# EAGLE library part ADAR7251?* (library ADAR7251)
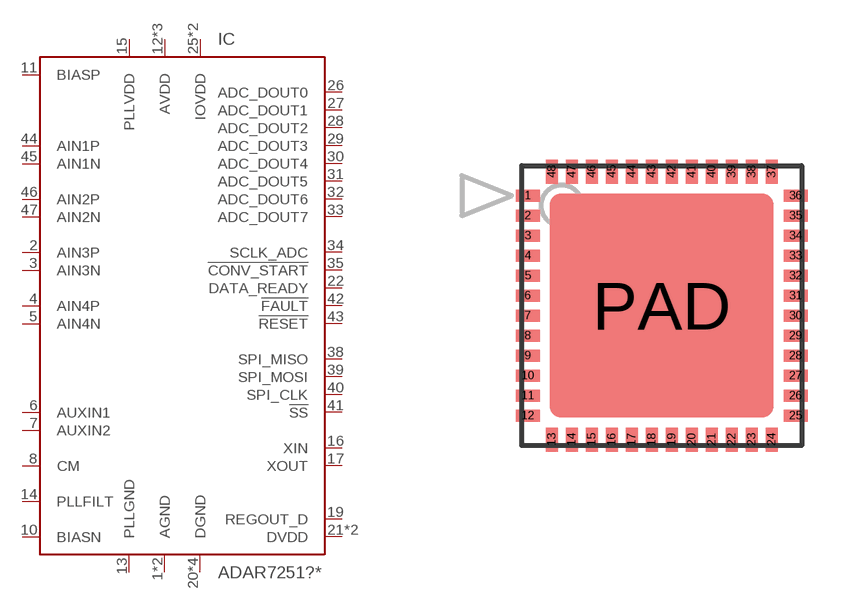
[diagram p0: symbol with the pads of LFCSP48-7X7-0.5; footprint LFCSP48-7X7-0.5]

Designator prefix IC

## ADAR7251WBCSZ (MARK: ADAR7251; MF: Analog Devices; MPN: ADAR7251WBCSZ), ADAR7251WBCSZ-RL (MARK: ADAR7251; MF: Analog Devices; MPN: ADAR7251WBCSZ-RL)  [LFCSP48-7X7-0.5]
1  AGND  pwr
2  AIN3P  in
3  AIN3N  in
4  AIN4P  in
5  AIN4N  in
6  AUXIN1  in
7  AUXIN2  in
8  CM
9  AGND  pwr
10  BIASN
11  BIASP
12  AVDD  pwr
13  PLLGND
14  PLLFILT
15  PLLVDD  in
16  XIN  in
17  XOUT  out
18  AVDD  pwr
19  REGOUT_D  out
20  DGND  pwr
21  DVDD  pwr
22  DATA_READY  out
23  DGND  pwr
24  DVDD  pwr
25  IOVDD  in
26  ADC_DOUT0  out
27  ADC_DOUT1  out
28  ADC_DOUT2
29  ADC_DOUT3
30  ADC_DOUT4  out
31  ADC_DOUT5  out
32  ADC_DOUT6  out
33  ADC_DOUT7
34  SCLK_ADC
35  !CONV_START  in
36  DGND  pwr
37  IOVDD  in
38  SPI_MISO  out
39  SPI_MOSI  in
40  SPI_CLK  in
41  !SS  in
42  !FAULT  oc
43  !RESET  oc
44  AIN1P  in
45  AIN1N  in
46  AIN2P  in
47  AIN2N  in
48  AVDD  pwr
PAD  DGND  pwr

## Footprint LFCSP48-7X7-0.5 (pad centres in mm)
smd 0.6 x 0.3: 1 -3.35,2.75; 2 -3.35,2.25; 3 -3.35,1.75; 4 -3.35,1.25; 5 -3.35,0.75; 6 -3.35,0.25; 7 -3.35,-0.25; 8 -3.35,-0.75; 9 -3.35,-1.25; 10 -3.35,-1.75; 11 -3.35,-2.25; 12 -3.35,-2.75; 25 3.35,-2.75; 26 3.35,-2.25; 27 3.35,-1.75; 28 3.35,-1.25; 29 3.35,-0.75; 30 3.35,-0.25; 31 3.35,0.25; 32 3.35,0.75; 33 3.35,1.25; 34 3.35,1.75; 35 3.35,2.25; 36 3.35,2.75
smd 0.3 x 0.6: 13 -2.75,-3.35; 14 -2.25,-3.35; 15 -1.75,-3.35; 16 -1.25,-3.35; 17 -0.75,-3.35; 18 -0.25,-3.35; 19 0.25,-3.35; 20 0.75,-3.35; 21 1.25,-3.35; 22 1.75,-3.35; 23 2.25,-3.35; 24 2.75,-3.35; 37 2.75,3.35; 38 2.25,3.35; 39 1.75,3.35; 40 1.25,3.35; 41 0.75,3.35; 42 0.25,3.35; 43 -0.25,3.35; 44 -0.75,3.35; 45 -1.25,3.35; 46 -1.75,3.35; 47 -2.25,3.35; 48 -2.75,3.35
smd 5.6 x 5.6: PAD 0,0